# Altium footprint library USB MICRO USB_AB_BM_SHS.PcbLib: 1 footprints
Each footprint in its own frame and in the unit in brackets; x right, y up, seen from the top. Pads: shape width x height; smd on the part's side, far side on the other; paste and mask are expansions set on the pad; w line width, h text height; cw(c..) or ccw(c..) is an arc to the next point about the centre after c.
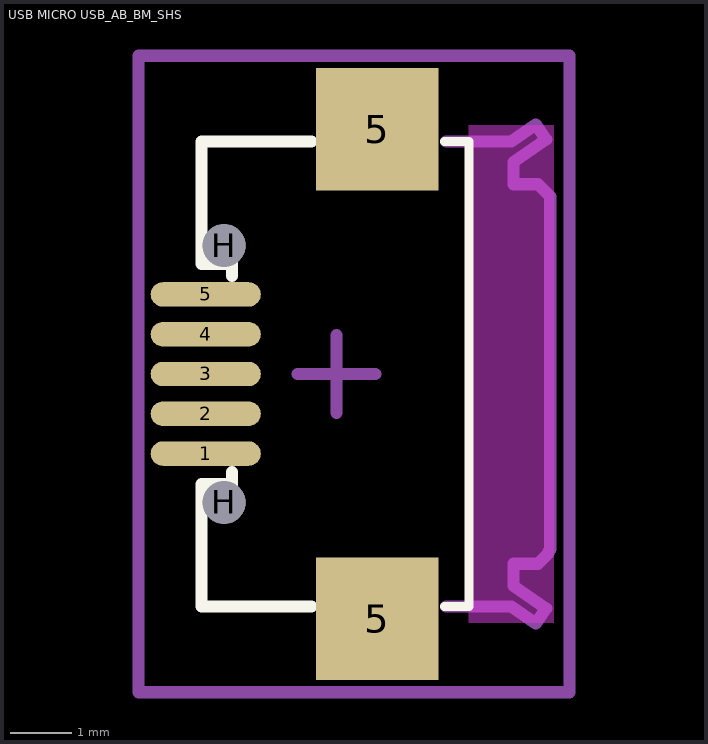
[diagram p0: the footprint, top view; thin cyan lines are the x and y axes]

## USB MICRO USB_AB_BM_SHS [mm]
pads (9):
  oval 1.8x0.4 smd: 1(45.641,30.602) 2(45.641,31.252) 3(45.641,31.902) 4(45.641,32.552) 5(45.641,33.202)
  rect 2x2 smd: 5(48.441,27.902) 5(48.441,35.902)
  round 0.7 hole 0.7: H(45.941,29.802) H(45.941,34.002)
Top Overlay:
  lines w0.15: 49.541,28.102 49.941,28.102 49.941,35.702 49.541,35.702
  lines w0.2: 46.071,30.302 46.071,30.102 45.571,30.102 45.571,30.002 45.571,28.102 46.871,28.102 47.371,28.102 ; 46.071,33.502 46.071,33.702 45.571,33.702 45.571,33.802 45.571,35.702 46.871,35.702 47.371,35.702
Keep-Out Layer:
  board cut-out: 49.941,35.966 51.332,35.966 51.332,27.838 49.941,27.838
Mechanical 1:
  lines w0.1: 49.935,28.102 49.935,35.702
  lines w0.2: 49.571,28.102 50.632,28.102 51.033,27.825 51.203,28.071 50.671,28.44 50.671,28.802 51.071,28.802 51.241,28.972 51.241,29.002 51.271,29.032 51.271,34.802 51.071,35.002 50.671,35.002 50.671,35.364 51.203,35.733 51.033,35.98 50.632,35.702 49.571,35.702
  text "PCB EDGE" at 50.189,34.315 h0.7
Mechanical 15:
  lines w0.2: 47.141,31.902 48.411,31.902 ; 47.776,31.267 47.776,32.537 ; 44.541,26.702 44.541,37.102 51.586,37.102 51.586,26.702 44.541,26.702
3D body "65944.stEp": height 2.75, standoff -0.55, extent 45.261,27.902 51.305,35.902